# EAGLE library part CY8C3246PVI (library NicksParts)
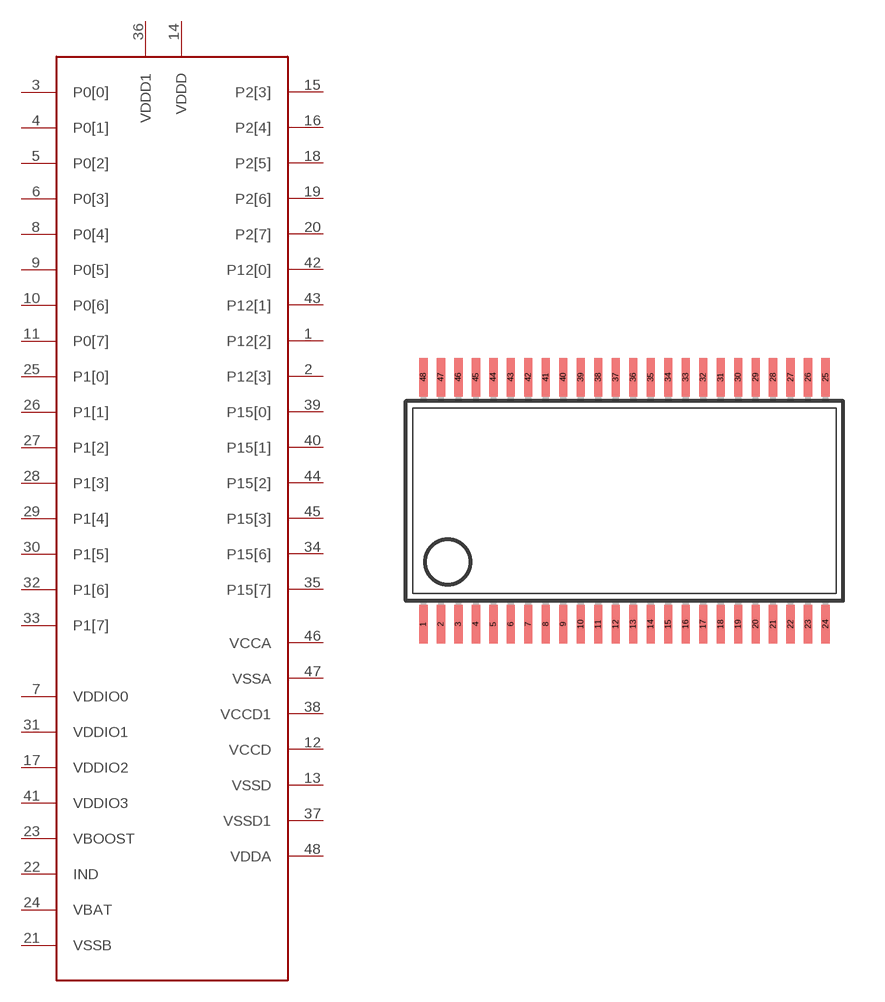
[diagram p3: symbol with the pads of SSOP48B; footprint SSOP48B]

Designator prefix -

## CY8C3246PVI  [SSOP48B]
1  P12[2]
2  P12[3]
3  P0[0]
4  P0[1]
5  P0[2]
6  P0[3]
7  VDDIO0
8  P0[4]
9  P0[5]
10  P0[6]
11  P0[7]
12  VCCD
13  VSSD
14  VDDD
15  P2[3]
16  P2[4]
17  VDDIO2
18  P2[5]
19  P2[6]
20  P2[7]
21  VSSB
22  IND
23  VBOOST
24  VBAT
25  P1[0]
26  P1[1]
27  P1[2]
28  P1[3]
29  P1[4]
30  P1[5]
31  VDDIO1
32  P1[6]
33  P1[7]
34  P15[6]
35  P15[7]
36  VDDD1
37  VSSD1
38  VCCD1
39  P15[0]
40  P15[1]
41  VDDIO3
42  P12[0]
43  P12[1]
44  P15[2]
45  P15[3]
46  VCCA
47  VSSA
48  VDDA

## Footprint SSOP48B (pad centres in mm)
smd 0.305 x 1.397: 1 -6.668,-4.483; 2 -6.032,-4.483; 3 -5.397,-4.483; 4 -4.763,-4.483; 5 -4.128,-4.483; 6 -3.493,-4.483; 7 -2.857,-4.483; 8 -2.223,-4.483; 9 -1.587,-4.483; 10 -0.953,-4.483; 11 -0.318,-4.483; 12 0.318,-4.483; 13 0.953,-4.483; 14 1.587,-4.483; 15 2.223,-4.483; 16 2.857,-4.483; 17 3.493,-4.483; 18 4.128,-4.483; 19 4.763,-4.483; 20 5.397,-4.483; 21 6.032,-4.483; 22 6.668,-4.483; 23 7.303,-4.483; 24 7.938,-4.483; 25 7.938,4.483; 26 7.303,4.483; 27 6.668,4.483; 28 6.032,4.483; 29 5.397,4.483; 30 4.763,4.483; 31 4.128,4.483; 32 3.493,4.483; 33 2.857,4.483; 34 2.223,4.483; 35 1.587,4.483; 36 0.953,4.483; 37 0.318,4.483; 38 -0.318,4.483; 39 -0.953,4.483; 40 -1.587,4.483; 41 -2.223,4.483; 42 -2.857,4.483; 43 -3.493,4.483; 44 -4.128,4.483; 45 -4.763,4.483; 46 -5.397,4.483; 47 -6.032,4.483; 48 -6.668,4.483